# EAGLE library part ESP32_DAUGHTERCARD (library VCOsys)
VCO ESP32-WROOM DAUGHTER CARD
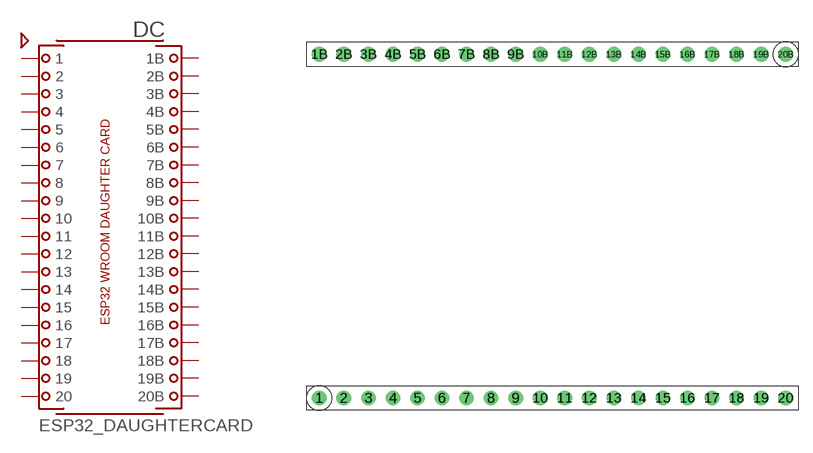
[diagram p1: symbol with the pads of ESP32WROOM_DAUGHTER; footprint ESP32WROOM_DAUGHTER]

Designator prefix DC

## ESP32_DAUGHTERCARD  [ESP32WROOM_DAUGHTER]
1  1
1B  1B
2  2
2B  2B
3  3
3B  3B
4  4
4B  4B
5  5
5B  5B
6  6
6B  6B
7  7
7B  7B
8  8
8B  8B
9  9
9B  9B
10  10
10B  10B
11  11
11B  11B
12  12
12B  12B
13  13
13B  13B
14  14
14B  14B
15  15
15B  15B
16  16
16B  16B
17  17
17B  17B
18  18
18B  18B
19  19
19B  19B
20  20
20B  20B

## Footprint ESP32WROOM_DAUGHTER (pad centres in mm)
drill 1.016: 1 2.54,5.08; 1B 2.54,40.64; 2 5.08,5.08; 2B 5.08,40.64; 3 7.62,5.08; 3B 7.62,40.64; 4 10.16,5.08; 4B 10.16,40.64; 5 12.7,5.08; 5B 12.7,40.64; 6 15.24,5.08; 6B 15.24,40.64; 7 17.78,5.08; 7B 17.78,40.64; 8 20.32,5.08; 8B 20.32,40.64; 9 22.86,5.08; 9B 22.86,40.64; 10 25.4,5.08; 10B 25.4,40.64; 11 27.94,5.08; 11B 27.94,40.64; 12 30.48,5.08; 12B 30.48,40.64; 13 33.02,5.08; 13B 33.02,40.64; 14 35.56,5.08; 14B 35.56,40.64; 15 38.1,5.08; 15B 38.1,40.64; 16 40.64,5.08; 16B 40.64,40.64; 17 43.18,5.08; 17B 43.18,40.64; 18 45.72,5.08; 18B 45.72,40.64; 19 48.26,5.08; 19B 48.26,40.64; 20 50.8,5.08; 20B 50.8,40.64